# Altium schematic symbol library SVP_Phoenix.SchLib: 49 symbols
Pins are listed as number, name and electrical type; pins without a type are passive.

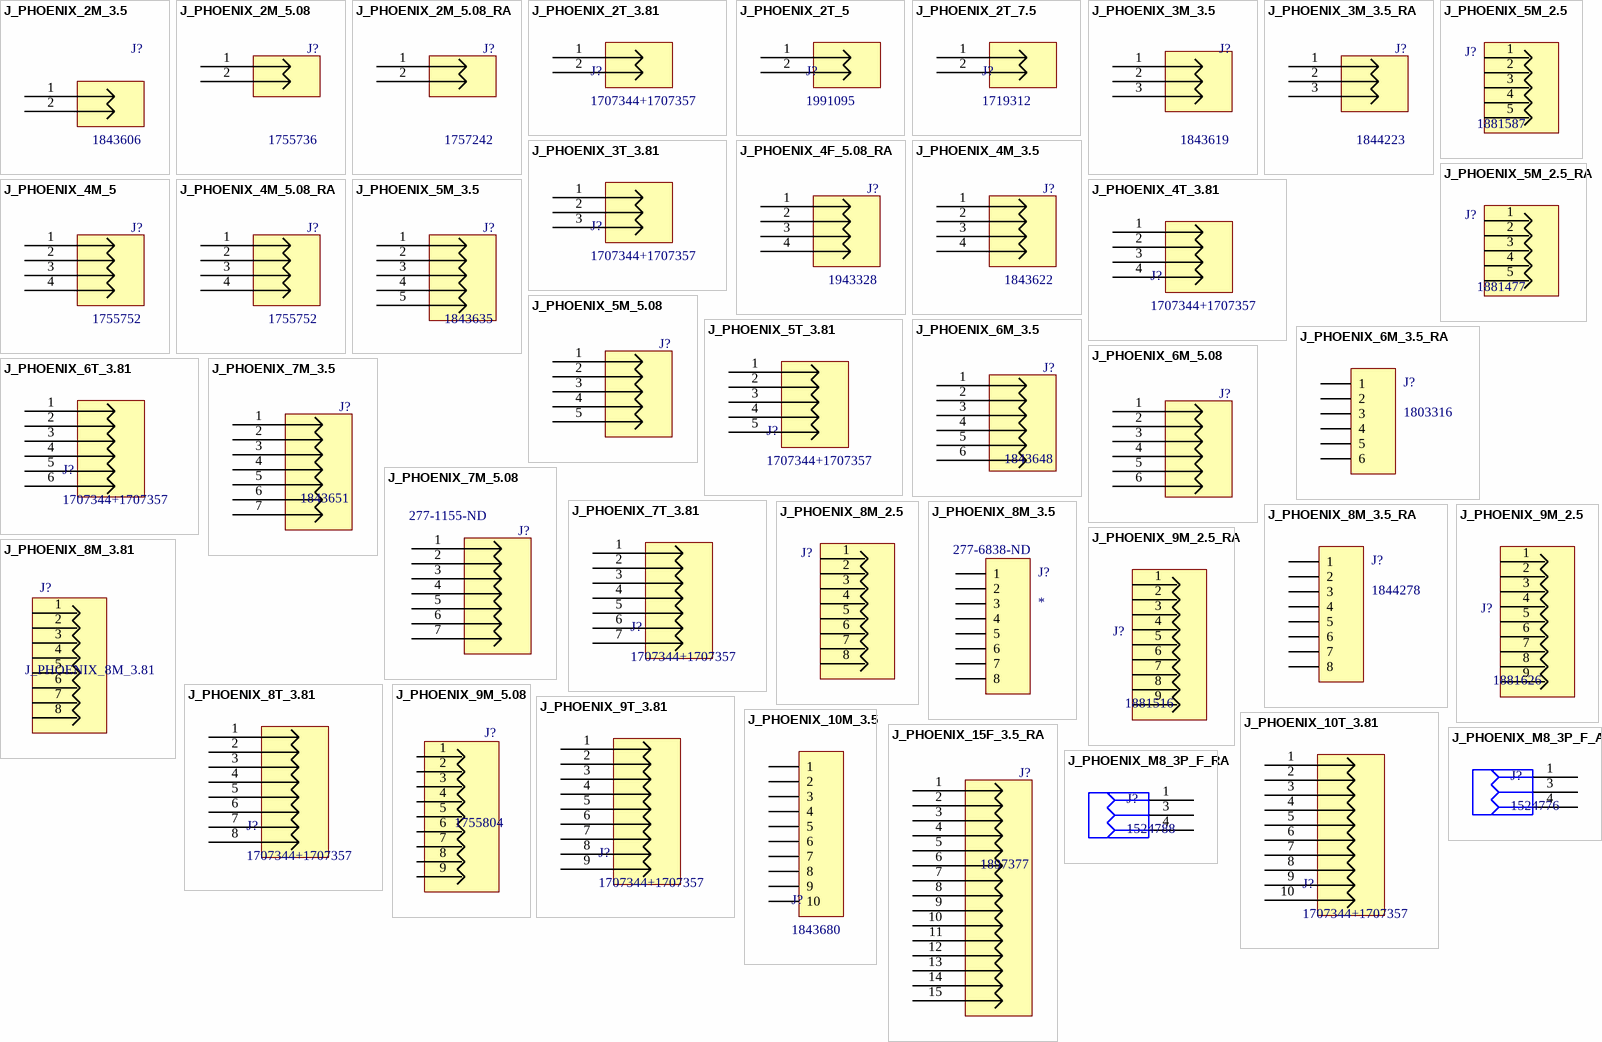
[diagram p0: symbols J_PHOENIX_2M_3.5 to J_PHOENIX_M8_3P_F_RA]

## J_PHOENIX_2M_3.5
designator J?, comment 1843606
2 Position Terminal Block Header, Male Pins, Shrouded (4 Side) 0.138" (3.50mm) Vertical Through Hole; Manufacturer PN: 1843619; SVP Creator: Spencer Berglund; Price: 0.84; Supplier 1: Digi-Key; Supplier 2: Arrow; Supplier Part Number 2: unMtSWlauDTU4dID5zRVhN7lsFIjAsVct5Q3R9sWgN4; Supplier Part Number 1: 277-5733-ND
footprint 1843606 (TERM BLOCK HDR 2POS VERT 3.5MM)
pins: 1, 2

## J_PHOENIX_2M_5.08
designator J?, comment 1755736
2 Pin Male Phoenix Connector 5.08 Straight; Manufacturer: Phoenix Contact; SVP Creator: Spencer Berglund; Manufacturer PN: 1755736; Price: 0.55; Supplier 1: Digi-Key; Supplier Part Number 1: 277-1150-ND
footprint PHONEIX_2_5.08_vert
pins: 1, 2

## J_PHOENIX_2M_5.08_RA
designator J?, comment 1757242
2 Pin Male Phoenix Connector 5.08 Right Angle; Manufacturer: Phoenix Contact; SVP Creator: Thomas Daede; Manufacturer PN: 1757242; Price: 0.47; Supplier 1: Digi-Key; Supplier Part Number 1: 277-1106-ND
footprint PHONEIX_2_5.08_RA
pins: 1, 2

## J_PHOENIX_2T_3.81
designator J?, comment 1707344+1707357
PCB terminal block ZFKDS 3.81mm vertical, 2 pin; Supplier 1: Digi-Key; Supplier Part Number 1: 277-6731-ND; Supplier 2: Digi-Key; Supplier Part Number 2: 1707357-ND
footprint 1707344(1)+1707357(1) (2 position 3.81mm spring terminals, vertical)
pins: 1, 2

## J_PHOENIX_2T_5
designator J?, comment 1991095
2 Position Wire to Board Terminal Block Vertical with Board 0.197" (5.00mm) Through Hole; Supplier 1: Digi-Key; Supplier Part Number 1: 277-6267-ND
footprint 1991095 (PCB terminal block - SPT 2,5/ 2-V-5,0 - 1991095)
pins: 1, 2

## J_PHOENIX_2T_7.5
designator J?, comment 1719312
2 Position Wire to Board Terminal Block Vertical with Board 0.295" (7.50mm) Through Hole; Supplier 1: Allied; Supplier Part Number 1: 70055353; Supplier 2: Digi-Key; Supplier Part Number 2: 1719312-ND
footprint 1719312 (PCB terminal block - SPT 5/ 2-V-7,5-ZB - 1719312)
pins: 1, 2

## J_PHOENIX_3M_3.5
designator J?, comment 1843619
3 Position Terminal Block Header, Male Pins, Shrouded (4 Side) 0.138" (3.50mm) Vertical Through Hole; SVP Creator: Spencer Berglund; Manufacturer PN: 1843619; Price: 1.08; Supplier 1: Digi-Key; Supplier Part Number 1: 277-5737-ND
footprint 1843619 (3 Position Terminal Block Header, Male Pins, Shrouded (4 Side) 0.138" (3.50mm) Vertical Through Hole)
pins: 1, 2, 3

## J_PHOENIX_3M_3.5_RA
designator J?, comment 1844223
3 Pin Male Phoenix Connector 3.5; SVP Creator: Jonathan Nutzmann; SVP Reviewer 1: Vivien Wang; CompontentLink1URL: http://www.digikey.com/product-detail/en/1844223/277-2415-ND/349196; Manufacturer PN: 1844223; Price: 1.09; Supplier 1: Digi-Key; Supplier Part Number 1: 277-2415-ND
footprint 1844223
pins: 1, 2, 3

## J_PHOENIX_3T_3.81
designator J?, comment 1707344+1707357
PCB terminal block ZFKDS 3.81mm vertical, 3 pin; Supplier 1: Digi-Key; Supplier Part Number 1: 277-6731-ND; Supplier 2: Digi-Key; Supplier Part Number 2: 1707357-ND
footprint 1707344(2)+1707357(1) (3 position 3.81mm spring terminals, vertical)
pins: 1, 2, 3

## J_PHOENIX_4F_5.08_RA
designator J?, comment 1943328
4 Pin Female Phoenix Connector 5.08 RA; SVP Creator: Peter Thompson; Manufacturer PN: 1943328; Supplier 1: Digi-Key; Supplier Part Number 1: 1943328-ND
footprint PHOENEIX_4_5.08_RA_F
pins: 1, 2, 3, 4

## J_PHOENIX_4M_3.5
designator J?, comment 1843622
4 Pin Male Phoenix Connector 3.5; SVP Creator: Jonathan Nutzmann; Manufacturer PN: 1843622; Supplier 1: Digi-Key; Supplier Part Number 1: 277-5738-ND
footprint 1843622
pins: 1, 2, 3, 4

## J_PHOENIX_4M_5
designator J?, comment 1755752
4 Pin Male Phoenix Connector 5.08 mm; Manufacturer: Phoenix Contact; SVP Creator: Peter Thompson; Manufacturer PN: 1755752; Supplier 1: Digi-Key; Supplier Part Number 1: 277-1152-ND
footprint PHONEIX_4_5.08 (1755752)
pins: 1, 2, 3, 4

## J_PHOENIX_4M_5.08_RA
designator J?, comment 1755752
4 Pin Male Phoenix Connector 5.08 RA; Manufacturer PN: 1923885; SVP Creator: Peter Thompson; Supplier 1: Digi-Key; Supplier Part Number 1: 277-7452-ND
footprint PHOENEIX_4_5.08_RA
pins: 1, 2, 3, 4

## J_PHOENIX_4T_3.81
designator J?, comment 1707344+1707357
PCB terminal block ZFKDS 3.81mm vertical, 4 pin; Supplier 1: Digi-Key; Supplier Part Number 1: 277-6731-ND; Supplier 2: Digi-Key; Supplier Part Number 2: 1707357-ND
footprint 1707344(3)+1707357(1) (4 position 3.81mm spring terminals, vertical)
pins: 1, 2, 3, 4

## J_PHOENIX_5M_2.5
designator J?, comment 1881587
5 Position Terminal Block Header, Male Pins, Shrouded (4 Side) 0.098" (2.50mm) Vertical Through Hole; Manufacturer: Phoenix Contact; Number of Positions: 5; Number of Levels: 1; Header Orientation: Right Angle; Current: 4A; Voltage: 125V; Manufacturer Part Number: 1881587; RoHS: RoHS Compliant; Category: Connectors, Interconnects; Packaging: Bulk; Terminal Block Type: Header, Male Pins, Shrouded (4 Side); Positions Per Level: 5; Pitch: 0.098" (2.50mm); Plug Wire Entry: -; Termination: Solder; Mounting Type: Vertical; Features: -; Color: Green; Supplier 1: Digi-Key; Supplier Part Number 1: 277-1455-ND
footprint 1881587 (5 Position Terminal Block Header, Male Pins, Shrouded (4 Side) 0.098" (2.50mm) Vertical Through Hole)
pins: 1, 2, 3, 4, 5

## J_PHOENIX_5M_2.5_RA
designator J?, comment 1881477
5 Position Terminal Block Header, Male Pins, Shrouded (4 Side) 0.098" (2.50mm) 90°, Right Angle Through Hole; Manufacturer: Phoenix Contact; Number of Positions: 5; Number of Levels: 1; Current: 4A; Voltage: 125V; Manufacturer Part Number: 1881477; RoHS: RoHS Compliant; Category: Connectors, Interconnects; Packaging: Bulk; Terminal Block Type: Header, Male Pins, Shrouded (4 Side); Positions Per Level: 5; Pitch: 0.098" (2.50mm); Header Orientation: Right Angle; Plug Wire Entry: -; Termination: Solder; Mounting Type: Through Hole; Features: -; Color: Green; Supplier 1: Digi-Key; Supplier Part Number 1: 277-1444-ND
footprint 1881477 (5 Position Terminal Block Header, Male Pins, Shrouded (4 Side) 0.098" (2.50mm) 90°, Right Angle Through Hole)
pins: 1, 2, 3, 4, 5

## J_PHOENIX_5M_3.5
designator J?, comment 1843635
5 Pin Male Phoenix Connector 3.5; SVP Creator: Jonathan Nutzmann; Manufacturer PN: 1843635; Supplier 1: Digi-Key; Supplier Part Number 1: 277-5752-ND
footprint 1843635
pins: 1, 2, 3, 4, 5

## J_PHOENIX_5M_5.08
designator J?, comment Board to Board Battery Tester  (value not drawn)
5 Pin Male Phoenix Connector 5.08; SVP Creator: Jonathan Nutzmann; Price: Free, kind of.
footprint PHONEIX_5_5.08
pins: 1, 2, 3, 4, 5

## J_PHOENIX_5T_3.81
designator J?, comment 1707344+1707357
PCB terminal block ZFKDS 3.81mm vertical, 5 pin; Supplier 1: Digi-Key; Supplier Part Number 1: 277-6731-ND; Supplier 2: Digi-Key; Supplier Part Number 2: 1707357-ND
footprint 1707344(4)+1707357(1) (5 position 3.81mm spring terminals, vertical)
pins: 1, 2, 3, 4, 5

## J_PHOENIX_6M_3.5
designator J?, comment 1843648
6 Pin Male Phoenix Connector 3.5; SVP Creator: Jonathan Nutzmann; Manufacturer PN: 1843648; Supplier 1: Digi-Key; Supplier Part Number 1: 277-5735-ND
footprint 1843648
pins: 1, 2, 3, 4, 5, 6

## J_PHOENIX_6M_3.5_RA
designator J?, comment 1803316
6 Pin Male Phoenix Connector 3.5mm RA; Manufacturer: Phoenix Contact; Manufacturer PN: 1803316; Supplier 1: Digi-Key; Supplier Part Number 1: 277-1210-ND
footprint 1844252
pins: 1, 2, 3, 4, 5, 6

## J_PHOENIX_6M_5.08
designator J?, comment Board to Board Battery Tester  (value not drawn)
6 Pin Male Phoenix Connector 5.08; SVP Creator: Jonathan Nutzmann; Price: Free, kind of.
footprint PHONEIX_6_5.08
pins: 1, 2, 3, 4, 5, 6

## J_PHOENIX_6T_3.81
designator J?, comment 1707344+1707357
PCB terminal block ZFKDS 3.81mm vertical, 6 pin; Supplier 1: Digi-Key; Supplier Part Number 1: 277-6731-ND; Supplier 2: Digi-Key; Supplier Part Number 2: 1707357-ND
footprint 1707344(5)+1707357(1) (6 position 3.81mm spring terminals, vertical)
pins: 1, 2, 3, 4, 5, 6

## J_PHOENIX_7M_3.5
designator J?, comment 1843651
7 Pin Male Phoenix Connector 3.5; SVP Creator: Jonathan Nutzmann; Manufacturer PN: 1843651; Supplier 1: Digi-Key; Supplier Part Number 1: 277-5828-ND
footprint 1843651
pins: 1, 2, 3, 4, 5, 6, 7

## J_PHOENIX_7M_5.08
designator J?  Supplier Part Number 1: 277-1155-ND
7 Pin Male Phoenix Connector 5.08; Manufacturer PN: 1755781; SVP Creator: Jonathan Nutzmann; Supplier 1: Digi-Key
footprint PHONEIX_7_5.08
pins: 1, 2, 3, 4, 5, 6, 7

## J_PHOENIX_7T_3.81
designator J?, comment 1707344+1707357
PCB terminal block ZFKDS 3.81mm vertical, 7 pin; Supplier 1: Digi-Key; Supplier Part Number 1: 277-6731-ND; Supplier 2: Digi-Key; Supplier Part Number 2: 1707357-ND
footprint 1707344(6)+1707357(1) (7 position 3.81mm spring terminals, vertical)
pins: 1, 2, 3, 4, 5, 6, 7

## J_PHOENIX_8M_2.5
designator J?  (value not drawn)
TERM BLOCK HDR 8POS VERT 2.5MM; Manufacturer: Phoenix Contact; Manufacturer Part Number: 1881613; Number of Positions: 8; Pitch: 0.098" (2.50mm); Number of Levels: 1; Header Orientation: Vertical; Current: 4A; Voltage: 125V; Supplier 1: Digi-Key; RoHS: RoHS Compliant; Category: Connectors, Interconnects; Stock 1: 356; Pricing 1: 1=3.12, 10=3.034, 50=2.8356, 100=2.6087, 250=2.41024, 500=2.29684, 1000=2.1128 (USD); Packaging: Bulk; Terminal Block Type: Header, Male Pins, Shrouded (4 Side); Positions Per Level: 8; Plug Wire Entry: -; Termination: Solder; Wire Gauge: -; Mounting Type: Through Hole; Features: -; Color: Green; ComponentLink1URL: http://media.digikey.com/pdf/Data%20Sheets/Phoenix%20Contact%20PDFs/1881613.pdf; ComponentLink1Description: http://media.digikey.com/pdf/Data%20Sheets/Phoenix%20Contact%20PDFs/1881613.pdf; Supplier Part Number 1: 277-1458-ND
footprint PHONIEX_8_2.5
pins: 1, 2, 3, 4, 5, 6, 7, 8

## J_PHOENIX_8M_3.5
designator J?  Supplier Part Number 1: 277-6838-ND
8 Pin Male Phoenix Connector 3.5mm; Manufacturer: Phoenix Contact; Manufacturer PN: 1911075; Supplier 1: Digi-Key
footprint 1911075 (8 Position Terminal Block Header, Male Pins, Shrouded (4 Side) 0.138" (3.50mm) Vertical Through Hole)
pins: 1, 2, 3, 4, 5, 6, 7, 8

## J_PHOENIX_8M_3.5_RA
designator J?, comment 1844278
8 Pin Male Phoenix Connector 3.5mm RA; Manufacturer: Phoenix Contact; Manufacturer PN: 1844278; Supplier 1: Digi-Key; Supplier Part Number 1: 277-5763-ND
footprint 1844278
pins: 1, 2, 3, 4, 5, 6, 7, 8

## J_PHOENIX_8M_3.81
designator J?
TERM BLOCK HDR 8POS VERT 3.81MM; Manufacturer: Phoenix Contact; Manufacturer Part Number: 1803484; Number of Positions: 8; Pitch: 0.150" (3.81mm); Number of Levels: 1; Header Orientation: Vertical; Current: 8A; Voltage: 300V; Supplier 1: Digi-Key; RoHS: RoHS Compliant; Category: Connectors, Interconnects; Stock 1: 1319; Pricing 1: 1=2.82, 10=2.693, 50=2.6194, 100=2.448, 250=2.25216, 500=2.0808, 1000=1.944, 2500=1.824 (USD); Packaging: Bulk; Terminal Block Type: Header, Male Pins, Shrouded (4 Side); Positions Per Level: 8; Plug Wire Entry: -; Termination: Solder; Wire Gauge: -; Mounting Type: Through Hole; Features: -; Color: Green; ComponentLink1URL: http://media.digikey.com/pdf/Data%20Sheets/Phoenix%20Contact%20PDFs/1803484.pdf; ComponentLink1Description: http://media.digikey.com/pdf/Data%20Sheets/Phoenix%20Contact%20PDFs/1803484.pdf; Supplier Part Number 1: 277-1227-ND
footprint PHOENIX_8_3.81
pins: 1, 2, 3, 4, 5, 6, 7, 8

## J_PHOENIX_8T_3.81
designator J?, comment 1707344+1707357
PCB terminal block ZFKDS 3.81mm vertical, 8 pin; Supplier 1: Digi-Key; Supplier Part Number 1: 277-6731-ND; Supplier 2: Digi-Key; Supplier Part Number 2: 1707357-ND
footprint 1707344(7)+1707357(1) (8 position 3.81mm spring terminals, vertical)
pins: 1, 2, 3, 4, 5, 6, 7, 8

## J_PHOENIX_9M_2.5
designator J?, comment 1881626
9 Position Terminal Block Header, Male Pins, Shrouded (4 Side) 0.098" (2.50mm) Vertical Through Hole; Manufacturer: Phoenix Contact; Number of Positions: 9; Number of Levels: 1; Current: 4A; Voltage: 125V; Manufacturer Part Number: 1881626; RoHS: RoHS Compliant; Category: Connectors, Interconnects; Packaging: Bulk; Terminal Block Type: Header, Male Pins, Shrouded (4 Side); Positions Per Level: 9; Pitch: 0.098" (2.50mm); Header Orientation: Vertical; Plug Wire Entry: -; Termination: Solder; Mounting Type: Through Hole; Features: -; Color: Green; Supplier 1: Digi-Key; Supplier Part Number 1: 277-1459-ND
footprint 1881626 (9 Position Terminal Block Header, Male Pins, Shrouded (4 Side) 0.098" (2.50mm) Vertical Through Hole)
pins: 1, 2, 3, 4, 5, 6, 7, 8, 9

## J_PHOENIX_9M_2.5_RA
designator J?, comment 1881516
9 Position Terminal Block Header, Male Pins, Shrouded (4 Side) 0.098" (2.50mm) 90°, Right Angle Through Hole; Manufacturer: Phoenix Contact; Number of Positions: 9; Number of Levels: 1; Current: 4A; Voltage: 125V; Manufacturer Part Number: 1881516; RoHS: RoHS Compliant; Category: Connectors, Interconnects; Packaging: Bulk; Terminal Block Type: Header, Male Pins, Shrouded (4 Side); Positions Per Level: 9; Pitch: 0.098" (2.50mm); Header Orientation: Right Angle; Plug Wire Entry: -; Termination: Solder; Mounting Type: Through Hole; Features: -; Color: Green; Supplier 1: Digi-Key; Supplier Part Number 1: 277-1448-ND
footprint 1881516 (9 Position Terminal Block Header, Male Pins, Shrouded (4 Side) 0.098" (2.50mm) 90°, Right Angle Through Hole)
pins: 1, 2, 3, 4, 5, 6, 7, 8, 9

## J_PHOENIX_9M_5.08
designator J?, comment 1755804
9 Pin Male Phoenix Connector 5.08; Manufacturer: Phoenix Contact; SVP Creator: Jonathan Anders; Manufacturer PN: 1755804; ComponentLink1Description: http://search.digikey.com/us/en/products/1755804/277-1157-ND/260525; ComponentLink1URL: SVN Datasheet URL; Supplier 1: Digi-Key; Supplier Part Number 1: 277-1157-ND
footprint PHONEIX_9_5.08
pins: 1, 2, 3, 4, 5, 6, 7, 8, 9

## J_PHOENIX_9T_3.81
designator J?, comment 1707344+1707357
PCB terminal block ZFKDS 3.81mm vertical, 9 pin; Supplier 1: Digi-Key; Supplier Part Number 1: 277-6731-ND; Supplier 2: Digi-Key; Supplier Part Number 2: 1707357-ND
footprint 1707344(8)+1707357(1) (9 position 3.81mm spring terminals, vertical)
pins: 1, 2, 3, 4, 5, 6, 7, 8, 9

## J_PHOENIX_10M_3.5
designator J?, comment 1843680
10 Position Terminal Block Header, Male Pins, Shrouded (4 Side) 0.138" (3.50mm) Vertical Through Hole; Manufacturer: Phoenix Contact; Manufacturer PN: 1843680; Supplier 1: Digi-Key
footprint 1843680 (10 Position Terminal Block Header, Male Pins, Shrouded (4 Side) 0.138" (3.50mm) Vertical Through Hole)
pins: 1, 2, 3, 4, 5, 6, 7, 8, 9, 10

## J_PHOENIX_10T_3.81
designator J?, comment 1707344+1707357
PCB terminal block ZFKDS 3.81mm vertical, 10 pin; Supplier 1: Digi-Key; Supplier Part Number 1: 277-6731-ND; Supplier 2: Digi-Key; Supplier Part Number 2: 1707357-ND
footprint 1707344(9)+1707357(1) (10 position 3.81mm spring terminals, vertical)
pins: 1, 2, 3, 4, 5, 6, 7, 8, 9, 10

## J_PHOENIX_15F_3.5_RA
designator J?, comment 1897377
15 Pin Female Phoenix Connector 3.5 RA; SVP Creator: Mitchell Rogalsky; CompontentLink1URL: https://www.phoenixcontact.com/online/portal/us?uri=pxc-oc-itemdetail:pid=1897377&library=usen&pcck=P-20-05-07&tab=1; Manufacturer PN: 1897377; Related Male Connector: https://www.phoenixcontact.com/online/portal/us?uri=pxc-oc-itemdetail:pid=1847259&library=usen&pcck=P-11-02-01&tab=1; Supplier 1: Digi-Key; Supplier Part Number 1: 1897377-ND
footprint PHOENIX_15F_3.5_RA
pins: 1, 2, 3, 4, 5, 6, 7, 8, 9, 10, 11, 12, 13, 14, 15

## J_PHOENIX_M8_3P_F_A
designator J?, comment 1524776
Phoenix M8 3P F A 1524776; Supplier 1: Digi-Key; Supplier Part Number 1: 277-7282-ND
footprint PHX M8 3P F A (Phoenix M8 3P F A 1524776)
pins: 1, 3, 4

## J_PHOENIX_M8_3P_F_RA
designator J?, comment 1524788
Phoenix M8 3P F RA 1524788; Supplier 1: Digi-Key; Supplier Part Number 1: 277-7284-ND
footprint PHX M8 3P F RA (Phoenix M8 3P F RA 1524788)
pins: 1, 3, 4

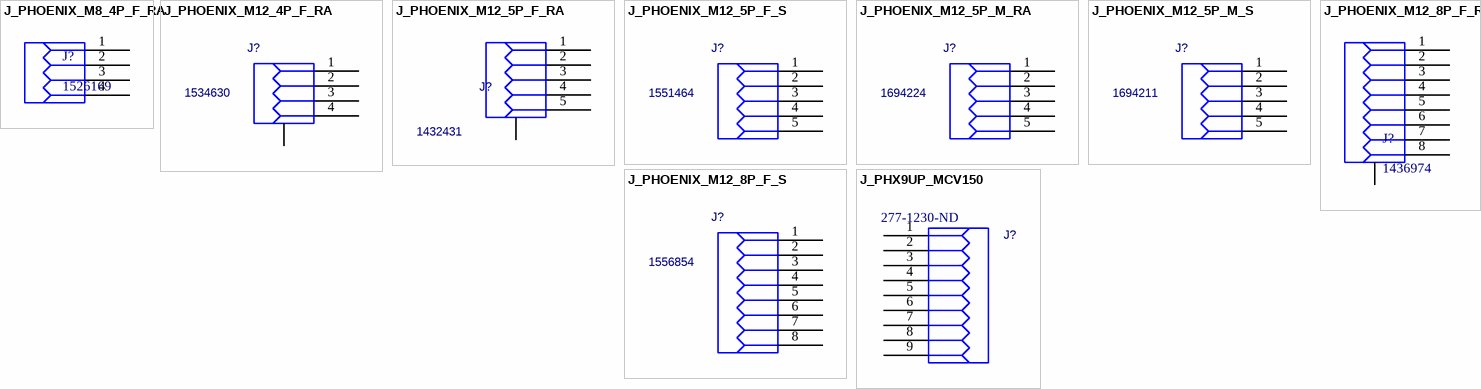
[diagram p1: symbols J_PHOENIX_M8_4P_F_RA to J_PHX9UP_MCV150]

## J_PHOENIX_M8_4P_F_RA
designator J?, comment 1526169
Phoenix M8 4P F RA 1526169; Supplier 1: Digi-Key; Supplier Part Number 1: 277-2737-ND
footprint PHX M8 4P F RA (Phoenix M8 4P F RA 1526169)
pins: 1, 2, 3, 4

## J_PHOENIX_M12_4P_F_RA
designator J?, comment 1534630
CONN RA, M12, 4PIN PCB MS; Manufacturer: PHOENIX CONTACT/EQUIV.; Part Number: 1534630; Value: *; part link: https://www.phoenixcontact.com/online/portal/us?uri=pxc-oc-itemdetail:pid=1534630&library=usen&tab=1; Supplier 1: Digi-Key; Supplier Part Number 1: 277-2019-ND
footprint PHX M12FS 4P (1534630)
pins: 1, 2, 3, 4, 5 SHLD, 6 hidden, 7 hidden, 8 hidden, 9 hidden

## J_PHOENIX_M12_5P_F_RA
designator J?, comment 1432431
CONN RA, M12, 5PIN PCB FR; Manufacturer: PHOENIX CONTACT/EQUIV.; Updated by: Joshua Liew; Order Number: 1432431; Supplier 1: Digi-Key; Supplier Part Number 1: 1432431-ND
footprint PHX M12FS 5P (Right Angle M12 Connector (FIXED 9-12-14))
pins: 1, 2, 3, 4, 5, 6 hidden, 7 hidden, 8 hidden, 9 hidden, e SHLD

## J_PHOENIX_M12_5P_F_S
designator J?, comment 1551464
CONN RA, M12, 5PIN PCB FS; Manufacturer: PHOENIX CONTACT/EQUIV.; Part Number: 1551464; Value: *; part link: https://www.phoenixcontact.com/online/portal/us?uri=pxc-oc-itemdetail:pid=1551464&library=usen&tab=1; Supplier 1: Digi-Key; Supplier Part Number 1: 1551464-ND
footprint PHX M12 SACC 5P A 1551464
pins: 1, 2, 3, 4, 5, 6 hidden, 7 hidden, 8 hidden, 9 hidden

## J_PHOENIX_M12_5P_M_RA
designator J?, comment 1694224
CONN RA, M12, 5PIN PCB MR; Manufacturer: PHOENIX CONTACT/EQUIV.; Part Number: 1694224; Value: *; part link: https://www.phoenixcontact.com/online/portal/us?uri=pxc-oc-itemdetail:pid=1694224&library=usen&tab=1; Supplier 1: Newark; Supplier Part Number 1: 82Y7659
footprint PHX M12MR 5P (Right angle phoenix connector (FIXED 9-12-14))
pins: 1, 2, 3, 4, 5, 6 hidden, 7 hidden, 8 hidden, 9 hidden

## J_PHOENIX_M12_5P_M_S
designator J?, comment 1694211
CONN RA, M12, 5PIN PCB MS; Manufacturer: PHOENIX CONTACT/EQUIV.; Part Number: 1694211; Value: *; Supplier 1: Digi-Key; Supplier Part Number 1: 277-2766-ND
footprint PHX M12 SACC 5P A 1694211
pins: 1, 2, 3, 4, 5, 6 hidden, 7 hidden, 8 hidden, 9 hidden

## J_PHOENIX_M12_8P_F_RA
designator J?, comment 1436974
Phoenix M12 8P F RA 1436974; Supplier 1: Digi-Key; Supplier Part Number 1: 277-2431-ND
footprint PHX M12 8P F RA (Phoenix M12 8P F RA 1436974)
pins: 1, 2, 3, 4, 5, 6, 7, 8, 9 SHLD

## J_PHOENIX_M12_8P_F_S
designator J?, comment 1556854
CONN RA, M12, 8PIN PCB FS; Manufacturer: PHOENIX CONTACT/EQUIV.; Part Number: 1556854; Value: *; Supplier 1: Digi-Key; Supplier Part Number 1: 1556854-ND
footprint PHX M12 SACC 8P A 1556854 (8 pos M12 Connector)
pins: 1, 2, 3, 4, 5, 6, 7, 8

## J_PHX9UP_MCV150
designator J?, comment Supplier Part Number 1: 277-1230-ND  (hidden comment: 1803510)
CONN., 9 PIN, 3.81 MM PITCH, MCV150; Manufacturer: PHOENIX; Part Number: 1803510; Value: *; Supplier 1: Digi-Key
footprint PHONEIX_9UP_MCV150 (9 pin Phoneix conector)
pins: 1, 2, 3, 4, 5, 6, 7, 8, 9